# Altium schematic symbol library AMProject.SchLib: 8 symbols
Pins are listed as number, name and electrical type; pins without a type are passive.

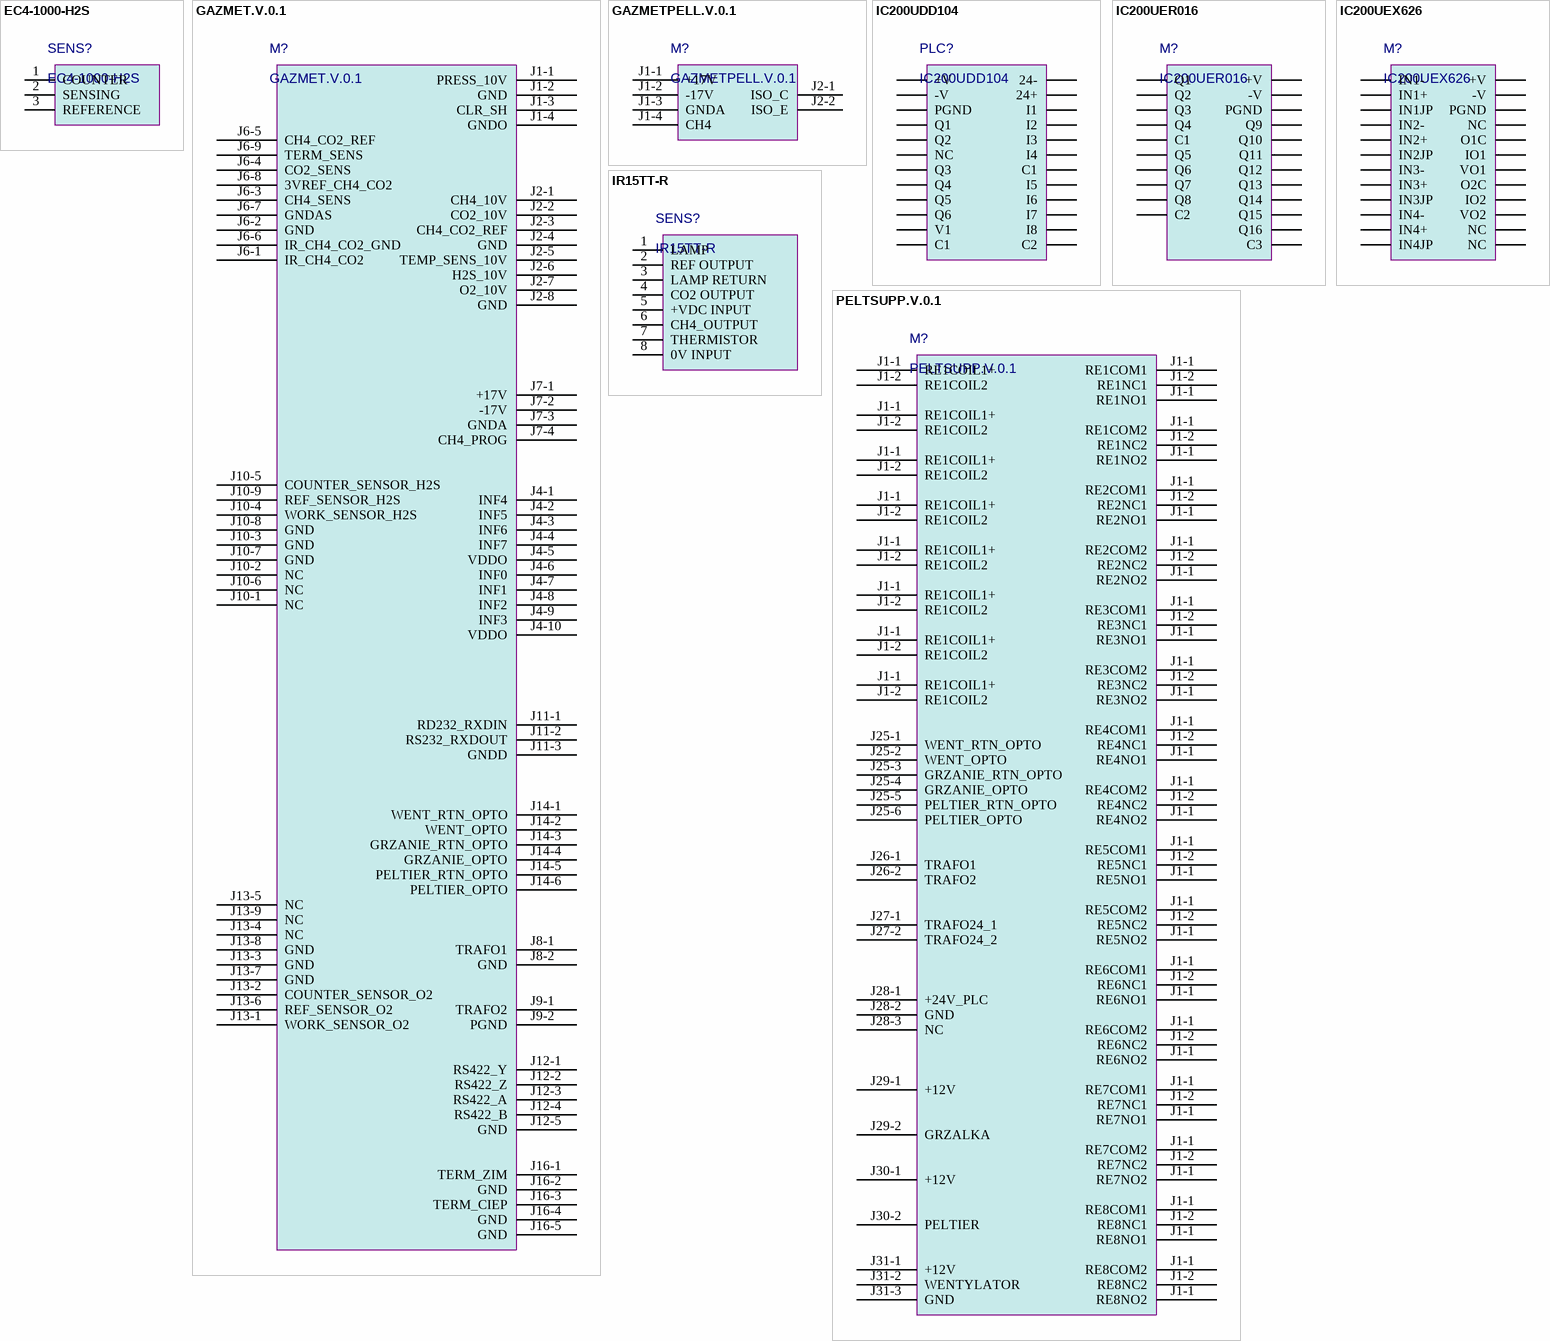
[diagram p0: symbols EC4-1000-H2S to PELTSUPP.V.0.1]

## EC4-1000-H2S
designator SENS?
Value: EC4-1000-H2S
pins: 1 COUNTER, 2 SENSING, 3 REFERENCE

## GAZMET.V.0.1
designator M?
Value: GAZMET.V.0.1
pins: J1-1 PRESS_10V, J1-2 GND, J1-3 CLR_SH, J1-4 GNDO, J2-1 CH4_10V, J2-2 CO2_10V, J2-3 CH4_CO2_REF, J2-4 GND, J2-5 TEMP_SENS_10V, J2-6 H2S_10V, J2-7 O2_10V, J2-8 GND, J4-1 INF4, J4-2 INF5, J4-3 INF6, J4-4 INF7, J4-5 VDDO, J4-6 INF0, J4-7 INF1, J4-8 INF2, J4-9 INF3, J4-10 VDDO, J6-1 IR_CH4_CO2, J6-2 GND, J6-3 CH4_SENS, J6-4 CO2_SENS, J6-5 CH4_CO2_REF, J6-6 IR_CH4_CO2_GND, J6-7 GNDAS, J6-8 3VREF_CH4_CO2, J6-9 TERM_SENS, J7-1 +17V, J7-2 -17V, J7-3 GNDA, J7-4 CH4_PROG, J8-1 TRAFO1, J8-2 GND, J9-1 TRAFO2, J9-2 PGND, J10-1 NC, J10-2 NC, J10-3 GND, J10-4 WORK_SENSOR_H2S, J10-5 COUNTER_SENSOR_H2S, J10-6 NC, J10-7 GND, J10-8 GND, J10-9 REF_SENSOR_H2S, J11-1 RD232_RXDIN, J11-2 RS232_RXDOUT, J11-3 GNDD, J12-1 RS422_Y, J12-2 RS422_Z, J12-3 RS422_A, J12-4 RS422_B, J12-5 GND, J13-1 WORK_SENSOR_O2, J13-2 COUNTER_SENSOR_O2, J13-3 GND, J13-4 NC, J13-5 NC, J13-6 REF_SENSOR_O2, J13-7 GND, J13-8 GND, J13-9 NC, J14-1 WENT_RTN_OPTO, J14-2 WENT_OPTO, J14-3 GRZANIE_RTN_OPTO, J14-4 GRZANIE_OPTO, J14-5 PELTIER_RTN_OPTO, J14-6 PELTIER_OPTO, J16-1 TERM_ZIM, J16-2 GND, J16-3 TERM_CIEP, J16-4 GND, J16-5 GND

## GAZMETPELL.V.0.1
designator M?
Value: GAZMETPELL.V.0.1
pins: J1-1 +17V, J1-2 -17V, J1-3 GNDA, J1-4 CH4, J2-1 ISO_C, J2-2 ISO_E

## IC200UDD104
designator PLC?
Value: IC200UDD104
pins: 2 -V, 3 PGND, 4 Q1, 5 Q2, 6 Q3, 7 Q4, 8 Q5, 9 Q6, 10 NC, 11 V1, 12 C1, 13 24-, 14 24+, 15 I1, 16 I2, 17 I3, 18 I4, 19 I5, 20 I6, 21 I7, 22 I8, 23 C2, 24 C1, +V

## IC200UER016
designator M?
Value: IC200UER016
pins: 25 Q1, 26 Q2, 27 Q3, 28 Q4, 29 Q5, 30 Q6, 31 Q7, 32 Q8, 33 Q9, 34 Q10, 35 Q11, 36 Q12, 37 Q13, 38 Q14, 39 Q15, 40 Q16, 41 +V, 42 -V, 43 PGND, 44 C1, 45 C2, 46 C3

## IC200UEX626
designator M?
Value: IC200UEX626
pins: 47 IN1-, 47 IN1+, 48 IN2-, 48 IN2+, 49 IN3-, 49 IN3+, 50 IN4-, 50 IN4+, 51 O1C, 51 O2C, 52 IO1, 52 IO2, 53 VO1, 54 VO2, 55 +V, 56 -V, 57 PGND, 58 NC, 58 NC, 58 NC, 59 IN1JP, 60 IN2JP, 61 IN3JP, 62 IN4JP

## IR15TT-R
designator SENS?
Value: IR15TT-R
pins: 1 LAMP, 2 REF OUTPUT, 3 LAMP RETURN, 4 CO2 OUTPUT, 5 +VDC INPUT, 6 CH4_OUTPUT, 7 THERMISTOR, 8 0V INPUT

## PELTSUPP.V.0.1
designator M?
Value: PELTSUPP.V.0.1
pins: J1-1 RE1COIL1+, J1-1 RE1COIL1+, J1-1 RE1COIL1+, J1-1 RE1COIL1+, J1-1 RE1COIL1+, J1-1 RE1COIL1+, J1-1 RE1COIL1+, J1-1 RE1COIL1+, J1-1 RE1COM1, J1-1 RE1NO1, J1-1 RE1COM2, J1-1 RE1NO2, J1-1 RE2COM1, J1-1 RE2NO1, J1-1 RE2COM2, J1-1 RE2NO2, J1-1 RE3COM1, J1-1 RE3NO1, J1-1 RE3COM2, J1-1 RE3NO2, J1-1 RE4COM1, J1-1 RE4NO1, J1-1 RE4COM2, J1-1 RE4NO2, J1-1 RE5COM1, J1-1 RE5NO1, J1-1 RE5COM2, J1-1 RE5NO2, J1-1 RE6COM1, J1-1 RE6NO1, J1-1 RE6COM2, J1-1 RE6NO2, J1-1 RE7COM1, J1-1 RE7NO1, J1-1 RE7COM2, J1-1 RE7NO2, J1-1 RE8COM1, J1-1 RE8NO1, J1-1 RE8COM2, J1-1 RE8NO2, J1-2 RE1COIL2, J1-2 RE1COIL2, J1-2 RE1COIL2, J1-2 RE1COIL2, J1-2 RE1COIL2, J1-2 RE1COIL2, J1-2 RE1COIL2, J1-2 RE1COIL2, J1-2 RE1NC1, J1-2 RE1NC2, J1-2 RE2NC1, J1-2 RE2NC2, J1-2 RE3NC1, J1-2 RE3NC2, J1-2 RE4NC1, J1-2 RE4NC2, J1-2 RE5NC1, J1-2 RE5NC2, J1-2 RE6NC1, J1-2 RE6NC2, J1-2 RE7NC1, J1-2 RE7NC2, J1-2 RE8NC1, J1-2 RE8NC2, J25-1 WENT_RTN_OPTO, J25-2 WENT_OPTO, J25-3 GRZANIE_RTN_OPTO, J25-4 GRZANIE_OPTO, J25-5 PELTIER_RTN_OPTO, J25-6 PELTIER_OPTO, J26-1 TRAFO1, J26-2 TRAFO2, J27-1 TRAFO24_1, J27-2 TRAFO24_2, J28-1 +24V_PLC, J28-2 GND, J28-3 NC, J29-1 +12V, J29-2 GRZALKA, J30-1 +12V, J30-2 PELTIER, J31-1 +12V, J31-2 WENTYLATOR, J31-3 GND